# Altium schematic symbol library PBL - Diodes.SCHLIB: 29 symbols
Pins are listed as number, name and electrical type; pins without a type are passive.

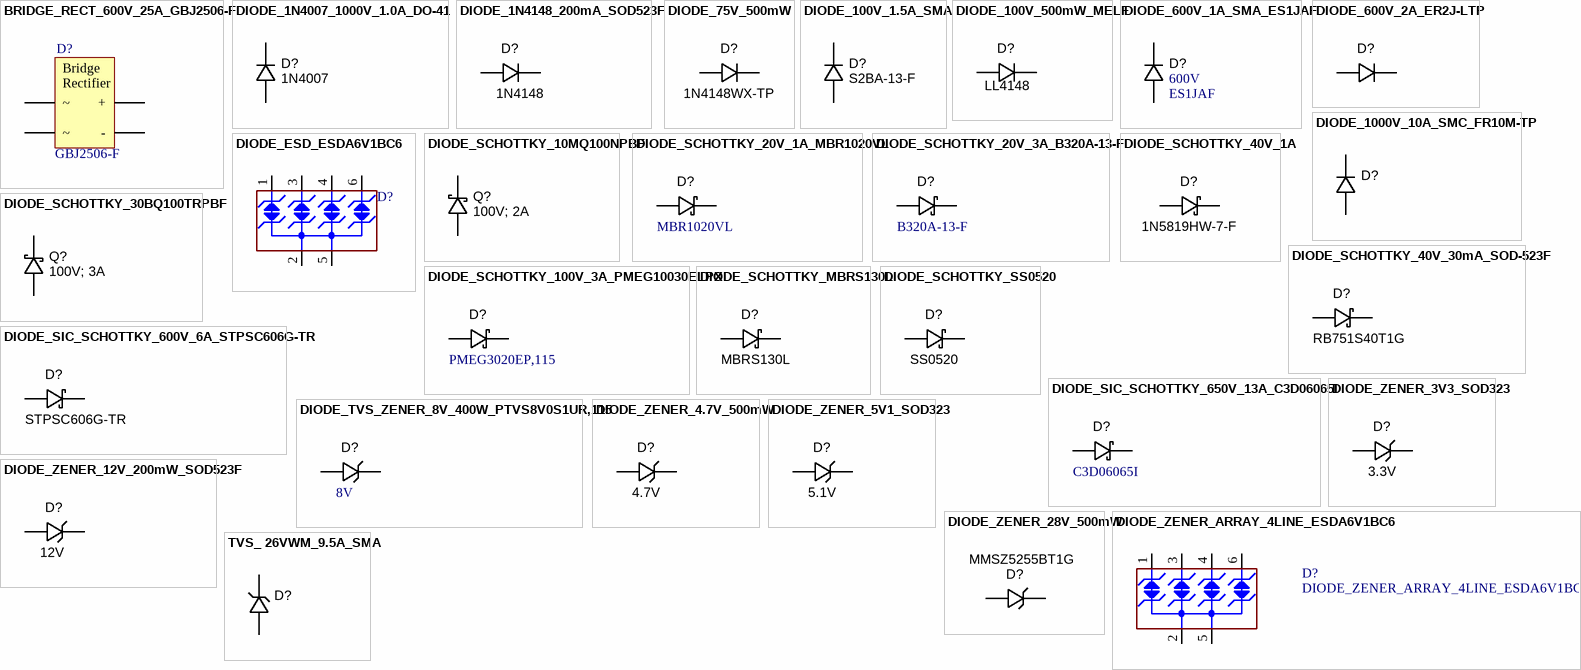
[diagram p0: symbols BRIDGE_RECT_600V_25A_GBJ2506-F to TVS_ 26VWM_9.5A_SMA]

## BRIDGE_RECT_600V_25A_GBJ2506-F
designator D?, comment GBJ2506-F
Bridge Rectifier Single Phase 600V 25A Through Hole GBJ; Manufacturer: Diodes Incorporated; Voltage - Forward (Vf) (Max) @ If: 1.05V @ 12.5A; Current - Reverse Leakage @ Vr: 10µA @ 600V; Supplier 1: Digi-Key; Supplier Part Number 1: GBJ2506-FDI-ND; RoHS: RoHS Compliant; Category: Discrete Semiconductor Products; Stock 1: 4710; Pricing 1: 1=1.45, 15=1.298, 105=1.012, 510=0.836, 1005=0.66 (USD); Packaging: Tube; Part Status: Active; Diode Type: Single Phase; Technology: Standard; Voltage - Peak Reverse (Max): 600V; Current - Average Rectified (Io): 25A; Operating Temperature: -65°C ~ 150°C (TJ); Mounting Type: Through Hole; Package / Case: 4-SIP, GBJ; Supplier Device Package: GBJ; ComponentLink1URL: https://www.diodes.com/assets/Datasheets/ds21221.pdf; ComponentLink1Description: https://www.diodes.com/assets/Datasheets/ds21221.pdf; Manufacturer Part Number: GBJ2506-F
footprint 4-SIP, GBJ (Bridge Rectifier Single Phase 600V 25A Through Hole GBJ)
pins: 1 +, 2 ~, 3 ~, 4 -
text: Bridge; Rectifier

## DIODE_1N4007_1000V_1.0A_DO-41
designator D?, comment 1N4007
Diode 1N4007 1A 1000V THD; Manufacturer 1: Diodes Inc; Manufacturer Part Number 1: 1N4007-T; Ratings: 100V; 1.5A; Diode Type: Standard; Value: Vf = 1.15V @ 1.5A (Max); SCDType: spec; Package / Case: DO-41; Mounting Type: Through Hole
footprint DO-41 (Diode, thru-hole)
pins: A, K

## DIODE_1N4148_200mA_SOD523F
designator D?, comment 1N4148
Diode SMD small signal 0.2A SOD-523F; Manufacturer 1: Fairchild Semiconductor; Manufacturer Part Number 1: 1N4148WT; Ratings: Vr=75V; Vf=1V@10mA; Io=200mA; Material: Si; SCDType: source; Package / Case: SC-79, SOD-523F; Supplier 1: Digi-Key; Supplier Part Number 1: 1N4148WTCT-ND; ComponentLink1URL: http://www.fairchildsemi.com/ds/1N/1N914BWT.pdf; ComponentLink1Description: http://www.fairchildsemi.com/ds/1N/1N914BWT.pdf; Value: 1N4148
footprint SOD523F (SOD-523F; 2 Leads; Body 1.3 x 0.9 mm, (LxW))
pins: A, K

## DIODE_75V_500mW
designator D?  Manufacturer Part Number: 1N4148WX-TP  (hidden comment: *)
Diode SMD 300mA 0.5W SOD323; Manufacturer: Micro Commercial Co; Ratings: 75V; 300mA; 0.5W; Material: Si; Diode Type: Standard; Value: Vf=1V @ 50mA; SCDType: source; Package / Case: SOD323; Supplier 1: Digi-Key; Supplier Part Number 1: 1N4148WXTPMSCT-ND
footprint SOD323 (SOD-323; 2 Leads; Body 1.8 x 1.35 mm, (LxW))
pins: A, K

## DIODE_100V_1.5A_SMA
designator D?, comment Manufacturer Part Number 1: S2BA-13-F  (hidden comment: 100V; 1.5A)
Diode SMD 100V 1.5A SMA; Manufacturer 1: Diodes Inc; Material: Si; Diode Type: Standard; Value: Vf = 1.15V @ 1.5A (Max); SCDType: source; Package / Case: DO-214AC, SMA; Ratings: 100V; 1.5A; Supplier 1: Digi-Key; Supplier Part Number 1: S2BA-FDICT-ND
footprint DO-214AC (JEDEC DO214 variation AC. SMA)
pins: A, K

## DIODE_100V_500mW_MELF
designator D?, comment Manufacturer Part Number 1: LL4148  (hidden comment: Mini MELF)
Diode SMD 100V 150mA 500mW SOD80; Manufacturer 1: Fairchild Semiconductor; Ratings: 100V; 150mA min; 500mW; Material: Si; Diode Type: Standard; Value: Vf=1V @ 10mA; SCDType: source; Package / Case: SOD80, LL-34; Manufacturer 2: DC Components; Manufacturer Part Number 2: DL4148; Supplier 1: Digi-Key; Supplier Part Number 1: LL4148FSCT-ND
footprint SOD80, LL-34 (Diode, MiniMELF)
pins: A, K

## DIODE_600V_1A_SMA_ES1JAF
designator D?, comment Voltage - DC Reverse (Vr) (Max): 600V  (hidden comment: ES1JAF)
Diode Standard 1A Surface Mount DO-214AD (SMAF); Manufacturer: Fairchild/ON Semiconductor; Voltage - Forward (Vf) (Max) @ If: 1.7V @ 1A; Speed: Fast Recovery =< 500ns, > 200mA (Io); Current - Reverse Leakage @ Vr: 1µA @ 600V; Capacitance @ Vr, F: 15pF @ 4V, 1MHz; Supplier 1: Digi-Key; Supplier Part Number 1: ES1JAFCT-ND; Packaging: Cut Tape (CT); Part Status: Active; Diode Type: Standard; Current - Average Rectified (Io): 1A; Mounting Type: Surface Mount; Package / Case: DO-214AD, SMAF; Supplier Device Package: DO-214AD (SMAF); Operating Temperature - Junction: -55°C ~ 150°C; ComponentLink1URL: https://www.fairchildsemi.com/datasheets/ES/ES1DAF.pdf; ComponentLink1Description: https://www.fairchildsemi.com/datasheets/ES/ES1DAF.pdf; RoHS: RoHS Compliant; Category: Discrete Semiconductor Products; Stock 1: 3712; Pricing 1: 1=0.42, 10=0.344, 100=0.2343, 500=0.17572, 1000=0.13179 (USD); Manufacturer Part Number: ES1JAF
footprint DO-214AD  SMAF (Molded Diode, 2-Leads, Body 4.70x2.50mm, IPC Medium Density)
pins: A, K

## DIODE_600V_2A_ER2J-LTP
designator D?, comment ER2J-LTP  (value not drawn)
Diode Standard 600V 2A Surface Mount DO-214AA (SMB); Manufacturer: Micro Commercial Co; Voltage - Forward (Vf) (Max) @ If: 1.7V @ 2A; Speed: Fast Recovery =< 500ns, > 200mA (Io); Current - Reverse Leakage @ Vr: 5µA @ 600V; Capacitance @ Vr, F: 15pF @ 4V, 1MHz; Supplier 1: Digi-Key; Supplier Part Number 1: ER2J-LTPMSCT-ND; RoHS: RoHS Compliant; Category: Discrete Semiconductor Products; Stock 1: 527; Pricing 1: 1=0.51, 10=0.362, 25=0.2976, 100=0.2379, 250=0.17304, 500=0.1406, 1000=0.10815 (USD); Packaging: Cut Tape (CT); Part Status: Active; Diode Type: Standard; Current - Average Rectified (Io): 2A; Mounting Type: Surface Mount; Package / Case: DO-214AA, SMB; Supplier Device Package: DO-214AA (SMB); Operating Temperature - Junction: -65°C ~ 175°C; ComponentLink1URL: http://www.mccsemi.com/up_pdf/ER2A-L~ER2J-L(DO-214AA).pdf; ComponentLink1Description: http://www.mccsemi.com/up_pdf/ER2A-L~ER2J-L(DO-214AA).pdf; Manufacturer Part Number: ER2J-LTP
footprint DO-214AA (JEDEC DO214 variation AA. SMB)
pins: A, K

## DIODE_1000V_10A_SMC_FR10M-TP
designator D?, comment FR10M-TP  (value not drawn)
Diode Standard 1000V 10A Surface Mount DO-214AB, (SMC); Manufacturer: Micro Commercial Co; Voltage - Forward (Vf) (Max) @ If: 1.3V @ 10A; Speed: Fast Recovery =< 500ns, > 200mA (Io); Current - Reverse Leakage @ Vr: 10µA @ 1000V; Supplier 1: Digi-Key; Supplier Part Number 1: FR10M-TPMSCT-ND; RoHS: RoHS Compliant; Category: Discrete Semiconductor Products; Stock 1: 6; Pricing 1: 1=0.78, 10=0.681, 25=0.6036, 100=0.5256, 250=0.45748, 500=0.38934 (USD); Packaging: Cut Tape (CT); Part Status: Active; Diode Type: Standard; Current - Average Rectified (Io): 10A; Capacitance @ Vr, F: -; Mounting Type: Surface Mount; Package / Case: DO-214AB, SMC; Supplier Device Package: DO-214AB, (SMC); Operating Temperature - Junction: -55°C ~ 150°C; ComponentLink1URL: http://www.mccsemi.com/up_pdf/FR10A-FR10M(HSMC).pdf; ComponentLink1Description: http://www.mccsemi.com/up_pdf/FR10A-FR10M(HSMC).pdf; Manufacturer Part Number: FR10M-TP
footprint DO-214AB (JEDEC DO214 variation AB. SMC)
pins: A, K

## DIODE_ESD_ESDA6V1BC6
designator D?  (value not drawn)
4-line ESD protection; Manuf_1: STM; Manuf_Part_1: ESDA5V3L; Ref St: 9179034; Provided: ST; ECCN_US/EU: EAR99/NEC; Distrib: ST; Order: ESDA5V3L; Ordered by: STM; Supplier 1: Digi-Key; Supplier Part Number 1: 497-6635-1-ND
footprint SOT23-6
pins: 1 IO1, 2 IO2, 3 GND, 4 IO3, 5 IO4, 6 NC

## DIODE_SCHOTTKY_10MQ100NPBF
designator Q?  Ratings: 100V; 2A  (hidden comment: *)
Diode Schottky SMD 100V 2A SMA; Manufacturer 1: Micro Commercial Co; Manufacturer Part Number 1: SS210-TP; Material: Si; Speed: Fast Recovery =< 500ns, > 200mA (Io); SCDType: source; Package / Case: DO-214AC, SMA; Diode Type: Schottky; Mounting Type: Surface Mount; Supplier 1: Digi-Key; Supplier Part Number 1: SS210-TPMSCT-ND
footprint DO-214AC (JEDEC DO214 variation AC. SMA)
pins: A, K

## DIODE_SCHOTTKY_20V_1A_MBR1020VL
designator D?, comment Manufacturer Part Number: MBR1020VL  (hidden comment: B320A-13-F)
Diode Schottky 20V 1A Surface Mount SOD-123F; Manufacturer: Fairchild/ON Semiconductor; Voltage - Forward (Vf) (Max) @ If: 340mV @ 1A; Speed: Fast Recovery =< 500ns, > 200mA (Io); Current - Reverse Leakage @ Vr: 600µA @ 20V; Supplier 1: Digi-Key; Supplier Part Number 1: MBR1020VLCT-ND; RoHS: RoHS Compliant; Category: Discrete Semiconductor Products; Stock 1: 10857; Pricing 1: 1=0.39, 10=0.293, 100=0.1661, 500=0.11, 1000=0.08433 (USD); Packaging: Cut Tape (CT); Part Status: Active; Diode Type: Schottky; Current - Average Rectified (Io): 1A; Capacitance @ Vr, F: -; Mounting Type: Surface Mount; Package / Case: SOD-123F; Supplier Device Package: SOD-123F; Operating Temperature - Junction: -55°C ~ 125°C; ComponentLink1URL: https://www.fairchildsemi.com/datasheets/MB/MBR1020VL.pdf; ComponentLink1Description: https://www.fairchildsemi.com/datasheets/MB/MBR1020VL.pdf
footprint SOD123F
pins: A, K

## DIODE_SCHOTTKY_20V_3A_B320A-13-F
designator D?, comment B320A-13-F
Diode Schottky 20V 3A Surface Mount SMA; Manufacturer: Diodes Incorporated; Voltage - Forward (Vf) (Max) @ If: 500mV @ 3A; Speed: Fast Recovery =< 500ns, > 200mA (Io); Current - Reverse Leakage @ Vr: 500µA @ 20V; Capacitance @ Vr, F: 200pF @ 4V, 1MHz; Supplier 1: Digi-Key; Supplier Part Number 1: B320A-FDICT-ND; RoHS: RoHS Compliant; Category: Discrete Semiconductor Products; Stock 1: 99912; Pricing 1: 1=0.57, 10=0.463, 100=0.3154, 500=0.23658, 1000=0.17743 (USD); Packaging: Cut Tape (CT); Part Status: Active; Diode Type: Schottky; Current - Average Rectified (Io): 3A; Mounting Type: Surface Mount; Package / Case: DO-214AC, SMA; Supplier Device Package: SMA; Operating Temperature - Junction: -55°C ~ 150°C; ComponentLink1URL: https://www.diodes.com/assets/Datasheets/ds30891.pdf; ComponentLink1Description: https://www.diodes.com/assets/Datasheets/ds30891.pdf; Manufacturer Part Number: B320A-13-F
footprint DO-214AC (JEDEC DO214 variation AC. SMA)
pins: A, K

## DIODE_SCHOTTKY_30BQ100TRPBF
designator Q?  Ratings: 100V; 3A  (hidden comment: *)
Diode Schottky SMD 100V 3A SMC; Manufacturer 1: Vishay/Semiconductors; Manufacturer Part Number 1: 30BQ100TRPBF; Material: Si; Speed: Fast Recovery =< 500ns, > 200mA (Io); SCDType: source; Package / Case: DO-214AB, SMC; Diode Type: Schottky; Mounting Type: Surface Mount; Supplier 1: Digi-Key; Supplier Part Number 1: 30BQ100PBFCT-ND
footprint DO-214AB (JEDEC DO214 variation AB. SMC)
pins: A, K

## DIODE_SCHOTTKY_40V_1A
designator D?  Manufacturer Part Number 1: 1N5819HW-7-F  (hidden comment: *)
Diode Schottky SMD 40V 1A SOD123; Manufacturer 1: Diodes Inc; Ratings: 40V; 1A; Material: Si; SCDType: spec; Package / Case: SOD123; Diode Type: Schottky; Mounting Type: Surface Mount; Supplier 1: Digi-Key; Supplier Part Number 1: 1N5819HW-FDICT-ND
footprint SOD123 (SOD-123; 2 Leads; Body 2.7 x 1.6 mm, (LxW))
pins: A, K

## DIODE_SCHOTTKY_40V_30mA_SOD-523F
designator D?, comment Manufacturer Part Number 1: RB751S40T1G  (hidden comment: Low Ir)
Diode Schottky SMD 40V 30mA SOD-523F; Manufacturer 1: ON Semiconductor; Ratings: 40Vmax; 30mA; Material: Si; Current - Reverse Leakage @ Vr: 500nA @ 30V; Current - Average Rectified (Io): 30mA (DC); Capacitance @ Vr, F: 2.5pF @ 1V, 1MHz; Voltage - Forward (Vf) (Max) @ If: 370mV @ 1mA; SCDType: source; Package / Case: SC-79, SOD-523F; Diode Type: Schottky; Mounting Type: Surface Mount; Supplier 1: Digi-Key; Supplier Part Number 1: RB751S40T1GOSCT-ND; ComponentLink1URL: http://www.onsemi.com/pub_link/Collateral/RB751S40T1-D.PDF; ComponentLink1Description: http://www.onsemi.com/pub_link/Collateral/RB751S40T1-D.PDF
footprint SOD523F (SOD-523F; 2 Leads; Body 1.3 x 0.9 mm, (LxW))
pins: A, K

## DIODE_SCHOTTKY_100V_3A_PMEG10030ELPX
designator D?, comment Manufacturer Part Number: PMEG3020EP,115  (hidden comment: PMEG10030ELPX)
Diode Schottky 100V 3A Surface Mount CFP5; Manufacturer: Nexperia USA Inc.; Description: DIODE SCHOTTKY 30V 2A SOD128; s: Cut Tape (CT); Current - Average Rectified (Io): 2A; Speed: Fast Recovery =< 500ns, > 200mA (Io); Capacitance @ Vr, F: 325pF @ 1V, 1MHz; Supplier 1: Digi-Key; Supplier Part Number 1: 1727-5836-1-ND; RoHS: RoHS Compliant; Category: Discrete Semiconductor Products; Stock 1: 16297; Pricing 1: 1=0.5, 10=0.407, 100=0.2769, 500=0.20764, 1000=0.15574 (USD); Part Status: Active; Diode Type: Schottky; Mounting Type: Surface Mount; Package / Case: SOD-128; Supplier Device Package: CFP5; Operating Temperature - Junction: 150°C (Max); Base Part Number: PMEG3020; ComponentLink1URL: https://assets.nexperia.com/documents/data-sheet/PMEG3020EP.pdf; ComponentLink1Description: https://assets.nexperia.com/documents/data-sheet/PMEG3020EP.pdf
footprint SOD128FL (SODFL, 2-Leads, Body 2.50x4.70mm, IPC Medium Density)
pins: A, K

## DIODE_SCHOTTKY_MBRS130L
designator D?, comment MBRS130L
Diode Schottky SMD 30V 2A DO-214AA; Manufacturer 1: Fairchild Semiconductor; Material: Si; Ratings: 30Vr; 2A; SCDType: source; Package / Case: DO-214AA, SMB; Supplier 1: Digi-Key; Supplier Part Number 1: MBRS130LFSCT-ND; Manufacturer Part Number 1: MBRS130L
footprint DO-214AA (JEDEC DO214 variation AA. SMB)
pins: A, K

## DIODE_SCHOTTKY_SS0520
designator D?, comment SS0520
Diode Schottky SMD 20V 0.5A SOD123; Manufacturer 1: Fairchild Semiconductor; Manufacturer Part Number 1: MBR0520L; Material: Si; Ratings: 20V; 0.5A; SCDType: source; Manufacturer 4: DC Components Co; Package / Case: SOD-123; Supplier 1: Digi-Key; Supplier Part Number 1: MBR0520LCT-ND; Supplier 2: Digi-Key; Supplier Part Number 2: MBR0520LT1GOSCT-ND; Manufacturer 2: ON Semiconductor; Manufacturer Part Number 2: MBR0520LT1G; ComponentLink1URL: http://www.fairchildsemi.com/ds/MB/MBR0520L.pdf; ComponentLink1Description: http://www.fairchildsemi.com/ds/MB/MBR0520L.pdf; ComponentLink2URL: http://www.onsemi.com/pub_link/Collateral/MBR0520LT1-D.PDF; ComponentLink2Description: http://www.onsemi.com/pub_link/Collateral/MBR0520LT1-D.PDF; Supplier 3: Digi-Key; Supplier Part Number 3: B0520LW-FDICT-ND; ComponentLink3URL: http://www.diodes.com/datasheets/ds30051.pdf; ComponentLink3Description: http://www.diodes.com/datasheets/ds30051.pdf; Manufacturer 3: Diodes Inc; Manufacturer Part Number 3: B0520LW-7-F; Manufacturer Part Number 4: SS0520
footprint SOD123 (SOD-123; 2 Leads; Body 2.7 x 1.6 mm, (LxW))
pins: A, K

## DIODE_SIC_SCHOTTKY_600V_6A_STPSC606G-TR
designator D?, comment STPSC606G-TR
Diode Silicon Carbide Schottky 6A Surface Mount D2PAK; Manufacturer: STMicroelectronics; Voltage - Forward (Vf) (Max) @ If: 1.7V @ 6A; Speed: No Recovery Time > 500mA (Io); Current - Reverse Leakage @ Vr: 75µA @ 600V; Capacitance @ Vr, F: 375pF @ 0V, 1MHz; Supplier 1: Digi-Key; Supplier Part Number 1: 497-10121-1-ND; RoHS: RoHS Compliant; Category: Discrete Semiconductor Products; Stock 1: 852; Pricing 1: 1=2.78, 10=2.495, 100=2.0052, 500=1.64748 (USD); Packaging: Cut Tape (CT); Part Status: Active; Diode Type: Silicon Carbide Schottky; Current - Average Rectified (Io): 6A; Mounting Type: Surface Mount; Package / Case: TO-263-3, D²Pak (2 Leads + Tab), TO-263AB; Supplier Device Package: D2PAK; Operating Temperature - Junction: -40°C ~ 175°C; ComponentLink1URL: http://www.st.com/content/ccc/resource/technical/document/datasheet/c5/ea/99/61/e6/6c/45/84/CD00249261.pdf/files/CD00249261.pdf/jcr:content/translations/en.CD00249261.pdf; ComponentLink1Description: http://www.st.com/content/ccc/resource/technical/document/datasheet/c5/ea/99/61/e6/6c/45/84/CD00249261.pdf/files/CD00249261.pdf/jcr:content/translations/en.CD00249261.pdf; Manufacturer Part Number: STPSC606G-TR
footprint D2PAK-3 (D-PAK/TO-263-3; 3 Leads (1 Cropped); Body 14.7 (inc. leads) x 10.2 mm (LxW max))
pins: 3 A, 4 K

## DIODE_SIC_SCHOTTKY_650V_13A_C3D06065I
designator D?, comment C3D06065I
Diode Silicon Carbide Schottky 13A (DC) Through Hole TO-220-2 Isolated Tab; Manufacturer: Cree/Wolfspeed; Voltage - Forward (Vf) (Max) @ If: 1.7V @ 6A; Speed: No Recovery Time > 500mA (Io); Current - Reverse Leakage @ Vr: 50µA @ 650V; Capacitance @ Vr, F: 295pF @ 0V, 1MHz; Supplier 1: Digi-Key; Supplier Part Number 1: C3D06065I-ND; RoHS: RoHS Compliant; Category: Discrete Semiconductor Products; Stock 1: 996; Pricing 1: 1=3.22, 100=2.68, 500=2.30002, 1000=2.0125 (USD); Packaging: Tube; Part Status: Active; Diode Type: Silicon Carbide Schottky; Current - Average Rectified (Io): 13A (DC); Mounting Type: Through Hole; Package / Case: TO-220-2 Isolated Tab; Supplier Device Package: TO-220-2 Isolated Tab; Operating Temperature - Junction: -55°C ~ 175°C; ComponentLink1URL: http://www.wolfspeed.com/media/downloads/44/C3D06065I.pdf; ComponentLink1Description: http://www.wolfspeed.com/media/downloads/44/C3D06065I.pdf; Manufacturer Part Number: C3D06065I
footprint TO220-2
pins: 1 K, 2 A

## DIODE_TVS_ZENER_8V_400W_PTVS8V0S1UR,115
designator D?  Voltage - Reverse Standoff (Typ): 8V
TVS DIODE 8VWM 13.6VC SOD123W; Manufacturer: Nexperia USA Inc.; Manufacturer Part Number: PTVS8V0S1UR,115; Type: Zener; Voltage - Breakdown (Min): 8.89V; Voltage - Clamping (Max) @ Ipp: 13.6V; Current - Peak Pulse (10/1000µs): 29.4A; Power - Peak Pulse: 400W; Power Line Protection: No; Supplier 1: Digi-Key; Supplier Part Number 1: 1727-5883-1-ND; RoHS: RoHS Compliant; Category: Circuit Protection; Stock 1: 9045; Pricing 1: 1=0.44, 10=0.329, 100=0.2051, 500=0.14032, 1000=0.10794 (USD); Packaging: Cut Tape (CT); Part Status: Active; Applications: Automotive; Capacitance @ Frequency: -; Operating Temperature: -55°C ~ 150°C (TA); Mounting Type: Surface Mount; Package / Case: SOD-123W; Supplier Device Package: CFP3; ComponentLink1URL: http://assets.nexperia.com/documents/data-sheet/PTVSXS1UR_SER.pdf; ComponentLink1Description: http://assets.nexperia.com/documents/data-sheet/PTVSXS1UR_SER.pdf
footprint SOD123W (SODFL, 2-Leads, Body 1.70x3.50mm, IPC Medium Density)
pins: A, K

## DIODE_ZENER_3V3_SOD323
designator D?, comment 3.3V
Diode Zener SMD 3.3V 200mW SOD-323; Manufacturer 1: ON Semiconductor; Manufacturer Part Number 1: MM3Z3V3ST1G; Ratings: 3.3V; 0.2W; Vf=900mV @ 10mA; Material: Si; Tolerance: ±3%; SCDType: source; Package / Case: SOD-323; Diode Type: Zener; Supplier 1: Digi-Key; Supplier Part Number 1: MM3Z3V3ST1GOSCT-ND
footprint SOD323 (SOD-323; 2 Leads; Body 1.8 x 1.35 mm, (LxW))
pins: A, K

## DIODE_ZENER_4.7V_500mW
designator D?, comment 4.7V
Diode Zener SMD 4.7V 0.5W SOD-123; Manufacturer 1: Fairchild Semiconductor; Manufacturer Part Number 1: MMSZ4688; Ratings: 4.7V; 0.5W; Vf=900mV @ 10mA; Material: Si; Tolerance: ±5%; SCDType: source; Package / Case: SOD-123; Diode Type: Zener; Supplier 1: Digi-Key; Supplier Part Number 1: MMSZ4688-ND
footprint SOD123 (SOD-123; 2 Leads; Body 2.7 x 1.6 mm, (LxW))
pins: A, K

## DIODE_ZENER_5V1_SOD323
designator D?, comment 5.1V
Zener Diode 5.1V 300mW ±2% Surface Mount SOD-323; Manufacturer Part Number: MM3Z5V1ST1G; Manufacturer: ON Semiconductor; Impedance (Max) (Zzt): 60 Ohm; Current - Reverse Leakage @ Vr: 2µA @ 2V; Voltage - Forward (Vf) (Max) @ If: 900mV @ 10mA; Supplier 1: Digi-Key; Supplier Part Number 1: MM3Z5V1ST1GOSCT-ND; Packaging: Cut Tape (CT); Part Status: Active; Voltage - Zener (Nom) (Vz): 5.1V; Tolerance: ±2%; Power - Max: 300mW; Operating Temperature: -65°C ~ 150°C (TJ); Mounting Type: Surface Mount; Package / Case: SC-76, SOD-323; Supplier Device Package: SOD-323; ComponentLink1URL: http://www.onsemi.com/pub_link/Collateral/MM3Z2V4ST1-D.PDF; ComponentLink1Description: http://www.onsemi.com/pub_link/Collateral/MM3Z2V4ST1-D.PDF; RoHS: RoHS Compliant; Category: Discrete Semiconductor Products; Stock 1: 86846; Pricing 1: 1=0.14, 10=0.131, 100=0.0714, 500=0.04396, 1000=0.02997 (USD)
footprint SOD323 (SOD-323; 2 Leads; Body 1.8 x 1.35 mm, (LxW))
pins: A, K

## DIODE_ZENER_12V_200mW_SOD523F
designator D?, comment 12V
Diode SMD Zener 12V 0.2W SOD-523F; Manufacturer 1: Fairchild Semiconductor; Manufacturer Part Number 1: MM5Z12V; Ratings: 12V; 0.2W; Material: Si; Tolerance: ±5.39%; Power - Max: 200mW; SCDType: spec; Package / Case: SC-79, SOD-523F; Diode Type: Zener; Supplier 1: Digi-Key; Supplier Part Number 1: MM5Z12VCT-ND; Operating Temperature: -55°C ~ 150°C; Value: 12V
footprint SOD523F (SOD-523F; 2 Leads; Body 1.3 x 0.9 mm, (LxW))
pins: A, K

## DIODE_ZENER_28V_500mW
designator D?  Manufacturer Part Number 1: MMSZ5255BT1G  (hidden comment: *)
Diode Zener SMD 28V 0.5W SOD-123; Manufacturer 1: ON Semiconductor; Ratings: 28V; 0.5W; Material: Si; Tolerance: ±5%; SCDType: source; Package / Case: SOD-123; Diode Type: Zener; Supplier 1: Digi-Key; Supplier Part Number 1: MMSZ5255BT1GOSCT-ND
footprint SOD123 (SOD-123; 2 Leads; Body 2.7 x 1.6 mm, (LxW))
pins: A, K

## DIODE_ZENER_ARRAY_4LINE_ESDA6V1BC6
designator D?
TVS DIODE 5VWM SOT23-6; Manufacturer: STMicroelectronics; Type: Zener; Bidirectional Channels: 4; Voltage - Reverse Standoff (Typ): 5V; Voltage - Breakdown (Min): 6.1V; Power - Peak Pulse: 80W; Power Line Protection: No; Supplier 1: Digi-Key; Supplier Part Number 1: 497-6635-1-ND; Manufacturer Part Number: ESDA6V1BC6; Packaging: Cut Tape (CT); Part Status: Active; Unidirectional Channels: -; Voltage - Clamping (Max) @ Ipp: -; Current - Peak Pulse (10/1000µs): -; Applications: General Purpose; Capacitance @ Frequency: -; Operating Temperature: -40°C ~ 125°C (TA); Mounting Type: Surface Mount; Package / Case: SOT-23-6; Supplier Device Package: SOT-23-6; ComponentLink1URL: http://www.st.com/content/ccc/resource/technical/document/datasheet/21/07/21/e3/a8/df/42/a2/CD00001906.pdf/files/CD00001906.pdf/jcr:content/translations/en.CD00001906.pdf; ComponentLink1Description: http://www.st.com/content/ccc/resource/technical/document/datasheet/21/07/21/e3/a8/df/42/a2/CD00001906.pdf/files/CD00001906.pdf/jcr:content/translations/en.CD00001906.pdf; RoHS: RoHS Compliant; Category: Circuit Protection; Stock 1: 19039; Pricing 1: 1=0.44, 10=0.333, 100=0.2074, 500=0.14194, 1000=0.10918 (USD)
footprint SOT23-6
pins: 1 IO1, 2 IO2, 3 GND, 4 IO3, 5 IO4, 6 NC

## TVS_ 26VWM_9.5A_SMA
designator D?, comment SMAJ26A  (value not drawn)
TVS DIODE 26VWM 42.1VC DO214AC; Ratings: 26VWM; 9.5A; Material: Si; Diode Type: Standard; Value: Vf = 1.15V @ 1.5A (Max); SCDType: source; Package / Case: DO-214AC, SMA; Supplier 1: Digi-Key; Supplier Part Number 1: SMAJ26A-E3/61GICT-ND
footprint DO-214AC (JEDEC DO214 variation AC. SMA)
pins: A, K